# EAGLE library part POWER (library _motovilo)
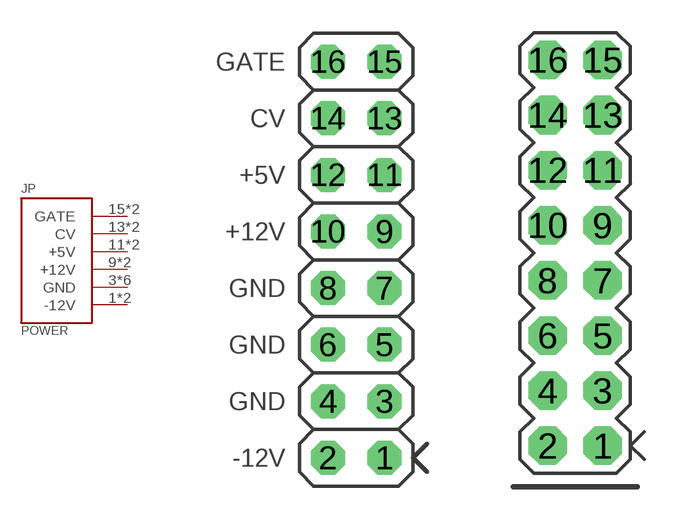
[diagram p1: symbol with the pads of POWER_16; footprints POWER_16, POWER_16A]

Designator prefix JP

## POWER"  [POWER_16]
1  -12V
2  -12V
3  GND
4  GND
5  GND
6  GND
7  GND
8  GND
9  +12V
10  +12V
11  +5V
12  +5V
13  CV
14  CV
15  GATE
16  GATE

## POWERA  [POWER_16A]
Pads as for POWER_16

## POWERN  [2X08_ANGLE]
Pads as for POWER_16

## Footprint POWER_16 (pad centres in mm)
drill 0.9 pad 1.524 octagon: 1 1.27,-8.89; 2 -1.27,-8.89; 3 1.27,-6.35; 4 -1.27,-6.35; 5 1.27,-3.81; 6 -1.27,-3.81; 7 1.27,-1.27; 8 -1.27,-1.27; 9 1.27,1.27; 10 -1.27,1.27; 11 1.27,3.81; 12 -1.27,3.81; 13 1.27,6.35; 14 -1.27,6.35; 15 1.27,8.89; 16 -1.27,8.89

## Footprint POWER_16A (pad centres in mm)
drill 1 pad 1.778 octagon: 1 1.27,-8.89; 2 -1.27,-8.89; 3 1.27,-6.35; 4 -1.27,-6.35; 5 1.27,-3.81; 6 -1.27,-3.81; 7 1.27,-1.27; 8 -1.27,-1.27; 9 1.27,1.27; 10 -1.27,1.27; 11 1.27,3.81; 12 -1.27,3.81; 13 1.27,6.35; 14 -1.27,6.35; 15 1.27,8.89; 16 -1.27,8.89

## Footprint 2X08_ANGLE (pad centres in mm)
drill 0.9 octagon: 1 1.27,-8.89; 2 -1.27,-8.89; 3 1.27,-6.35; 4 -1.27,-6.35; 5 1.27,-3.81; 6 -1.27,-3.81; 7 1.27,-1.27; 8 -1.27,-1.27; 9 1.27,1.27; 10 -1.27,1.27; 11 1.27,3.81; 12 -1.27,3.81; 13 1.27,6.35; 14 -1.27,6.35; 15 1.27,8.89; 16 -1.27,8.89